# Altium integrated library Silicon Labs Energy Micro EFM32.IntLib: 240 symbols (part 21 of 34)
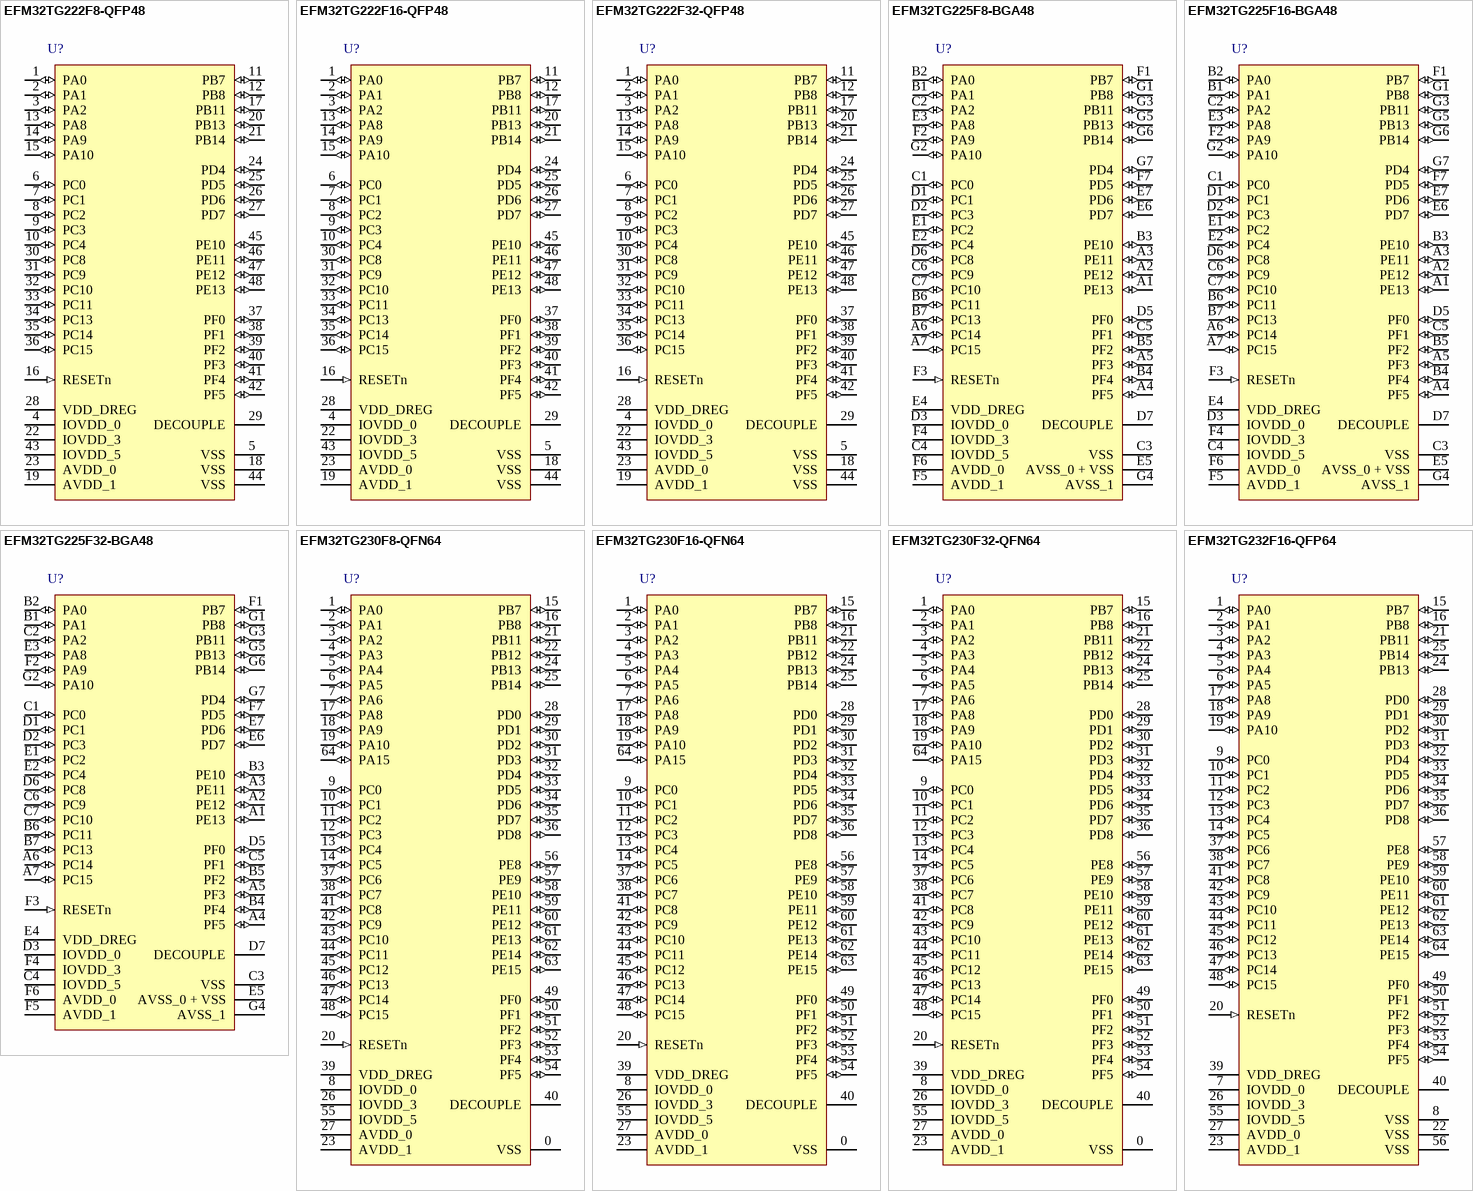
[diagram p58: symbols EFM32TG222F8-QFP48 to EFM32TG232F16-QFP64]

## EFM32TG222F8-QFP48
designator U?
EFM32 Tiny Gecko, M3 ARM Cortex CPU, 8 KB Flash, 2 KB RAM, 1.85 - 3.8 V Supply, 32 MHz Max Speed, -40 to 85 degC, 48-Pin TQFP, RoHS Compliant; Generic Part Number: EFM32TG222; PartNumber: EFM32TG222F8-QFP48; ADC: Y; Flash (KB): 8; GPIO: 37; Max Speed (MHz): 32; OPAMPS: 3; RAM (KB): 2; DatasheetVersion: Rev 1.00; PackageVersion: Rev. 98SPP48097A_XO_30Mar11; PackageReference: TQFP48; PackageDescription: 48-Pin Quad Flat Package, Body 7 x 7 mm, Pitch 0.5 mm; Supplier 1: Digi-Key; Supplier Part Number 1: EFM32TG222F8-ND; Supplier 2: Mouser; Supplier Part Number 2: 904-EFM32TG222F8; AES: Y; ARM Cortex CPU: M3; LESENSE: Y; Subcategory: EFM32 Tiny Gecko; Supply Voltage (V): 1.85 - 3.8; Mounting Technology: Surface Mount; ComponentLink1Description: Manufacturer URL; ComponentLink1URL: http://www.energymicro.com/; ComponentLink2Description: Datasheet; ComponentLink2URL: http://cdn.energymicro.com/dl/devices/pdf/d0051_efm32tg222_datasheet.pdf; ComponentLink3Description: Package Specification; ComponentLink3URL: http://cdn.energymicro.com/dl/devices/pdf/d0033_efm32g222_datasheet.pdf
footprint ENMR-TQFP48_N (QFP, 48-Leads, Body 7x7mm, Pitch 0.5mm, IPC Medium Density)
footprint ENMR-TQFP48_L (QFP, 48-Leads, Body 7x7mm, Pitch 0.5mm, IPC High Density)
footprint ENMR-TQFP48_M (QFP, 48-Leads, Body 7x7mm, Pitch 0.5mm, IPC Low Density)
pins: 1 PA0 (io) "TIM0_CC0#0/1/4, LEU0_RX#4, I2C0_SDA#0, PRS_CH0#0, GPIO_EM4WU0?", 2 PA1 (io) "TIM0_CC1#0/1, I2C0_SCL#0, CMU_CLK1#0, PRS_CH1#0", 3 PA2 (io) "TIM0_CC2#0/1, CMU_CLK0#0", 4 IOVDD_0 (power) "Digital IO power supply 0.", 5 VSS (power) "Ground.", 6 PC0 (io) "DAC0_OUT0ALT#0/OPAMP_OUT0ALT, ACMP0_CH0, TIM0_CC1#4, PCNT0_S0IN#2, US0_TX#5, US1_TX#0, I2C0_SDA#4, LES_CH0#0, PRS_CH2#0", 7 PC1 (io) "DAC0_OUT0ALT#1/OPAMP_OUT0ALT, ACMP0_CH1, TIM0_CC2#4, PCNT0_S1IN#2, US0_RX#5, US1_RX#0, I2C0_SCL#4, LES_CH1#0, PRS_CH3#0", 8 PC2 (io) "DAC0_OUT0ALT#2/OPAMP_OUT0ALT, ACMP0_CH2, LES_CH2#0", 9 PC3 (io) "DAC0_OUT0ALT#3/OPAMP_OUT0ALT, ACMP0_CH3, LES_CH3#0", 10 PC4 (io) "DAC0_P0#0/OPAMP_P0, ACMP0_CH4, LETIM0_OUT0#3, LES_CH4#0", 11 PB7 (io) "LFXTAL_P, TIM1_CC0#3, US0_TX#4, US1_CLK#0", 12 PB8 (io) "LFXTAL_N, TIM1_CC1#3, US0_RX#4, US1_CS#0", 13 PA8 (io), 14 PA9 (io), 15 PA10 (io), 16 RESETn (in) "Reset input. Active low, with internal pull-up.", 17 PB11 (io) "DAC0_OUT0#0/OPAMP_OUT0, TIM1_CC2#3, LETIM0_OUT0#1", 18 VSS (power) "Ground.", 19 AVDD_1 (power) "Analog power supply 1 .", 20 PB13 (io) "HFXTAL_P, US0_CLK#4/5, LEU0_TX#1", 21 PB14 (io) "HFXTAL_N, US0_CS#4/5, LEU0_RX#1", 22 IOVDD_3 (power) "Digital IO power supply 3.", 23 AVDD_0 (power) "Analog power supply 0.", 24 PD4 (io) "ADC0_CH4, DAC0_P2#0/OPAMP_P2, LEU0_TX#0", 25 PD5 (io) "ADC0_CH5, DAC0_OUT2#0/OPAMP_OUT2, LEU0_RX#0", 26 PD6 (io) "ADC0_CH6, DAC0_P1#0/OPAMP_P1, TIM1_CC0#4, LETIM0_OUT0#0, PCNT0_S0IN#3, US1_RX#2, I2C0_SDA#1, LES_ALTEX0#0, ACMP0_O#2", 27 PD7 (io) "ADC0_CH7, DAC0_N1#0/OPAMP_N1, TIM1_CC1#4, LETIM0_OUT1#0, PCNT0_S1IN#3, US1_TX#2, I2C0_SCL#1, CMU_CLK0#2, LES_ALTEX1#0, ACMP1_O#2", 28 VDD_DREG (power) "Power supply for on-chip voltage regulator.", 29 DECOUPLE "Decouple output for on-chip voltage regulator, nominally at 1.8 V. An external capacitance of size CDECOUPLE is required at this pin.", 30 PC8 (io) "ACMP1_CH0, US0_CS#2, LES_CH8#0", 31 PC9 (io) "ACMP1_CH1, US0_CLK#2, LES_CH9#0, GPIO_EM4WU2", 32 PC10 (io) "ACMP1_CH2, US0_RX#2, LES_CH10#0", 33 PC11 (io) "ACMP1_CH3, US0_TX#2, LES_CH11#0", 34 PC13 (io) "DAC0_OUT1ALT#1/OPAMP_OUT1ALT, ACMP1_CH5, TIM1_CC0#0, TIM1_CC2#4, PCNT0_S0IN#0, LES_CH13#0", 35 PC14 (io) "DAC0_OUT1ALT#2/OPAMP_OUT1ALT, ACMP1_CH6, TIM1_CC1#0, PCNT0_S1IN#0, US0_CS#3, LES_CH14#0", 36 PC15 (io) "DAC0_OUT1ALT#3/OPAMP_OUT1ALT, ACMP1_CH7, TIM1_CC2#0, US0_CLK#3, LES_CH15#0, DBG_SWO#1", 37 PF0 (io) "TIM0_CC0#5, LETIM0_OUT0#2, US1_CLK#2, LEU0_TX#3, I2C0_SDA#5, DBG_SWCLK#0/1", 38 PF1 (io) "TIM0_CC1#5, LETIM0_OUT1#2, US1_CS#2, LEU0_RX#3, I2C0_SCL#5, DBG_SWDIO#0/1, GPIO_EM4WU3", 39 PF2 (io) "TIM0_CC2#5, LEU0_TX#4, ACMP1_O#0, DBG_SWO#0, GPIO_EM4WU4", 40 PF3 (io) "PRS_CH0#1", 41 PF4 (io) "PRS_CH1 #1", 42 PF5 (io) "PRS_CH2#1", 43 IOVDD_5 (power) "Digital IO power supply 5.", 44 VSS (power) "Ground", 45 PE10 (io) "TIM1_CC0#1, US0_TX#0", 46 PE11 (io) "TIM1_CC1#1, US0_RX#0, LES_ALTEX5#0", 47 PE12 (io) "TIM1_CC2#1, US0_RX#3, US0_CLK#0, I2C0_SDA#6, CMU_CLK1#2, LES_ALTEX6#0", 48 PE13 (io) "US0_TX#3, US0_CS#0, I2C0_SCL#6, LES_ALTEX7#0, ACMP0_O#0, GPIO_EM4WU5"

## EFM32TG222F16-QFP48
designator U?
EFM32 Tiny Gecko, M3 ARM Cortex CPU, 16 KB Flash, 4 KB RAM, 1.85 - 3.8 V Supply, 32 MHz Max Speed, -40 to 85 degC, 48-Pin TQFP, RoHS Compliant; Generic Part Number: EFM32TG222; PartNumber: EFM32TG222F16-QFP48; ADC: Y; Flash (KB): 16; GPIO: 37; Max Speed (MHz): 32; OPAMPS: 3; RAM (KB): 4; DatasheetVersion: Rev 1.00; PackageVersion: Rev. 98SPP48097A_XO_30Mar11; PackageReference: TQFP48; PackageDescription: 48-Pin Quad Flat Package, Body 7 x 7 mm, Pitch 0.5 mm; Supplier 1: Digi-Key; Supplier Part Number 1: EFM32TG222F16-ND; Supplier 2: Mouser; Supplier Part Number 2: 904-EFM32TG222F16; AES: Y; ARM Cortex CPU: M3; LESENSE: Y; Subcategory: EFM32 Tiny Gecko; Supply Voltage (V): 1.85 - 3.8; Mounting Technology: Surface Mount; ComponentLink1Description: Manufacturer URL; ComponentLink1URL: http://www.energymicro.com/; ComponentLink2Description: Datasheet; ComponentLink2URL: http://cdn.energymicro.com/dl/devices/pdf/d0051_efm32tg222_datasheet.pdf; ComponentLink3Description: Package Specification; ComponentLink3URL: http://cdn.energymicro.com/dl/devices/pdf/d0033_efm32g222_datasheet.pdf
footprint ENMR-TQFP48_N (QFP, 48-Leads, Body 7x7mm, Pitch 0.5mm, IPC Medium Density)
footprint ENMR-TQFP48_L (QFP, 48-Leads, Body 7x7mm, Pitch 0.5mm, IPC High Density)
footprint ENMR-TQFP48_M (QFP, 48-Leads, Body 7x7mm, Pitch 0.5mm, IPC Low Density)
pins: 1 PA0 (io) "TIM0_CC0#0/1/4, LEU0_RX#4, I2C0_SDA#0, PRS_CH0#0, GPIO_EM4WU0?", 2 PA1 (io) "TIM0_CC1#0/1, I2C0_SCL#0, CMU_CLK1#0, PRS_CH1#0", 3 PA2 (io) "TIM0_CC2#0/1, CMU_CLK0#0", 4 IOVDD_0 (power) "Digital IO power supply 0.", 5 VSS (power) "Ground.", 6 PC0 (io) "DAC0_OUT0ALT#0/OPAMP_OUT0ALT, ACMP0_CH0, TIM0_CC1#4, PCNT0_S0IN#2, US0_TX#5, US1_TX#0, I2C0_SDA#4, LES_CH0#0, PRS_CH2#0", 7 PC1 (io) "DAC0_OUT0ALT#1/OPAMP_OUT0ALT, ACMP0_CH1, TIM0_CC2#4, PCNT0_S1IN#2, US0_RX#5, US1_RX#0, I2C0_SCL#4, LES_CH1#0, PRS_CH3#0", 8 PC2 (io) "DAC0_OUT0ALT#2/OPAMP_OUT0ALT, ACMP0_CH2, LES_CH2#0", 9 PC3 (io) "DAC0_OUT0ALT#3/OPAMP_OUT0ALT, ACMP0_CH3, LES_CH3#0", 10 PC4 (io) "DAC0_P0#0/OPAMP_P0, ACMP0_CH4, LETIM0_OUT0#3, LES_CH4#0", 11 PB7 (io) "LFXTAL_P, TIM1_CC0#3, US0_TX#4, US1_CLK#0", 12 PB8 (io) "LFXTAL_N, TIM1_CC1#3, US0_RX#4, US1_CS#0", 13 PA8 (io), 14 PA9 (io), 15 PA10 (io), 16 RESETn (in) "Reset input. Active low, with internal pull-up.", 17 PB11 (io) "DAC0_OUT0#0/OPAMP_OUT0, TIM1_CC2#3, LETIM0_OUT0#1", 18 VSS (power) "Ground.", 19 AVDD_1 (power) "Analog power supply 1 .", 20 PB13 (io) "HFXTAL_P, US0_CLK#4/5, LEU0_TX#1", 21 PB14 (io) "HFXTAL_N, US0_CS#4/5, LEU0_RX#1", 22 IOVDD_3 (power) "Digital IO power supply 3.", 23 AVDD_0 (power) "Analog power supply 0.", 24 PD4 (io) "ADC0_CH4, DAC0_P2#0/OPAMP_P2, LEU0_TX#0", 25 PD5 (io) "ADC0_CH5, DAC0_OUT2#0/OPAMP_OUT2, LEU0_RX#0", 26 PD6 (io) "ADC0_CH6, DAC0_P1#0/OPAMP_P1, TIM1_CC0#4, LETIM0_OUT0#0, PCNT0_S0IN#3, US1_RX#2, I2C0_SDA#1, LES_ALTEX0#0, ACMP0_O#2", 27 PD7 (io) "ADC0_CH7, DAC0_N1#0/OPAMP_N1, TIM1_CC1#4, LETIM0_OUT1#0, PCNT0_S1IN#3, US1_TX#2, I2C0_SCL#1, CMU_CLK0#2, LES_ALTEX1#0, ACMP1_O#2", 28 VDD_DREG (power) "Power supply for on-chip voltage regulator.", 29 DECOUPLE "Decouple output for on-chip voltage regulator, nominally at 1.8 V. An external capacitance of size CDECOUPLE is required at this pin.", 30 PC8 (io) "ACMP1_CH0, US0_CS#2, LES_CH8#0", 31 PC9 (io) "ACMP1_CH1, US0_CLK#2, LES_CH9#0, GPIO_EM4WU2", 32 PC10 (io) "ACMP1_CH2, US0_RX#2, LES_CH10#0", 33 PC11 (io) "ACMP1_CH3, US0_TX#2, LES_CH11#0", 34 PC13 (io) "DAC0_OUT1ALT#1/OPAMP_OUT1ALT, ACMP1_CH5, TIM1_CC0#0, TIM1_CC2#4, PCNT0_S0IN#0, LES_CH13#0", 35 PC14 (io) "DAC0_OUT1ALT#2/OPAMP_OUT1ALT, ACMP1_CH6, TIM1_CC1#0, PCNT0_S1IN#0, US0_CS#3, LES_CH14#0", 36 PC15 (io) "DAC0_OUT1ALT#3/OPAMP_OUT1ALT, ACMP1_CH7, TIM1_CC2#0, US0_CLK#3, LES_CH15#0, DBG_SWO#1", 37 PF0 (io) "TIM0_CC0#5, LETIM0_OUT0#2, US1_CLK#2, LEU0_TX#3, I2C0_SDA#5, DBG_SWCLK#0/1", 38 PF1 (io) "TIM0_CC1#5, LETIM0_OUT1#2, US1_CS#2, LEU0_RX#3, I2C0_SCL#5, DBG_SWDIO#0/1, GPIO_EM4WU3", 39 PF2 (io) "TIM0_CC2#5, LEU0_TX#4, ACMP1_O#0, DBG_SWO#0, GPIO_EM4WU4", 40 PF3 (io) "PRS_CH0#1", 41 PF4 (io) "PRS_CH1 #1", 42 PF5 (io) "PRS_CH2#1", 43 IOVDD_5 (power) "Digital IO power supply 5.", 44 VSS (power) "Ground", 45 PE10 (io) "TIM1_CC0#1, US0_TX#0", 46 PE11 (io) "TIM1_CC1#1, US0_RX#0, LES_ALTEX5#0", 47 PE12 (io) "TIM1_CC2#1, US0_RX#3, US0_CLK#0, I2C0_SDA#6, CMU_CLK1#2, LES_ALTEX6#0", 48 PE13 (io) "US0_TX#3, US0_CS#0, I2C0_SCL#6, LES_ALTEX7#0, ACMP0_O#0, GPIO_EM4WU5"

## EFM32TG222F32-QFP48
designator U?
EFM32 Tiny Gecko, M3 ARM Cortex CPU, 32 KB Flash, 4 KB RAM, 1.85 - 3.8 V Supply, 32 MHz Max Speed, -40 to 85 degC, 48-Pin TQFP, RoHS Compliant; Generic Part Number: EFM32TG222; PartNumber: EFM32TG222F32-QFP48; ADC: Y; Flash (KB): 32; GPIO: 37; OPAMPS: 3; RAM (KB): 4; DatasheetVersion: Rev 1.00; PackageVersion: Rev. 98SPP48097A_XO_30Mar11; PackageReference: TQFP48; PackageDescription: 48-Pin Quad Flat Package, Body 7 x 7 mm, Pitch 0.5 mm; Supplier 1: Digi-Key; Supplier Part Number 1: 914-1029-2-ND; Supplier 2: Digi-Key; Supplier Part Number 2: 914-1029-1-ND; Supplier 3: Digi-Key; Supplier Part Number 3: 914-1029-6-ND; Supplier 4: Mouser; Supplier Part Number 4: 904-EFM32TG222F32; AES: Y; ARM Cortex CPU: M3; LESENSE: Y; Max Speed (MHz): 32; Subcategory: EFM32 Tiny Gecko; Supply Voltage (V): 1.85 - 3.8; Mounting Technology: Surface Mount; ComponentLink1Description: Manufacturer URL; ComponentLink1URL: http://www.energymicro.com/; ComponentLink2Description: Datasheet; ComponentLink2URL: http://cdn.energymicro.com/dl/devices/pdf/d0051_efm32tg222_datasheet.pdf; ComponentLink3Description: Package Specification; ComponentLink3URL: http://cdn.energymicro.com/dl/devices/pdf/d0033_efm32g222_datasheet.pdf
footprint ENMR-TQFP48_N (QFP, 48-Leads, Body 7x7mm, Pitch 0.5mm, IPC Medium Density)
footprint ENMR-TQFP48_L (QFP, 48-Leads, Body 7x7mm, Pitch 0.5mm, IPC High Density)
footprint ENMR-TQFP48_M (QFP, 48-Leads, Body 7x7mm, Pitch 0.5mm, IPC Low Density)
pins: 1 PA0 (io) "TIM0_CC0#0/1/4, LEU0_RX#4, I2C0_SDA#0, PRS_CH0#0, GPIO_EM4WU0?", 2 PA1 (io) "TIM0_CC1#0/1, I2C0_SCL#0, CMU_CLK1#0, PRS_CH1#0", 3 PA2 (io) "TIM0_CC2#0/1, CMU_CLK0#0", 4 IOVDD_0 (power) "Digital IO power supply 0.", 5 VSS (power) "Ground.", 6 PC0 (io) "DAC0_OUT0ALT#0/OPAMP_OUT0ALT, ACMP0_CH0, TIM0_CC1#4, PCNT0_S0IN#2, US0_TX#5, US1_TX#0, I2C0_SDA#4, LES_CH0#0, PRS_CH2#0", 7 PC1 (io) "DAC0_OUT0ALT#1/OPAMP_OUT0ALT, ACMP0_CH1, TIM0_CC2#4, PCNT0_S1IN#2, US0_RX#5, US1_RX#0, I2C0_SCL#4, LES_CH1#0, PRS_CH3#0", 8 PC2 (io) "DAC0_OUT0ALT#2/OPAMP_OUT0ALT, ACMP0_CH2, LES_CH2#0", 9 PC3 (io) "DAC0_OUT0ALT#3/OPAMP_OUT0ALT, ACMP0_CH3, LES_CH3#0", 10 PC4 (io) "DAC0_P0#0/OPAMP_P0, ACMP0_CH4, LETIM0_OUT0#3, LES_CH4#0", 11 PB7 (io) "LFXTAL_P, TIM1_CC0#3, US0_TX#4, US1_CLK#0", 12 PB8 (io) "LFXTAL_N, TIM1_CC1#3, US0_RX#4, US1_CS#0", 13 PA8 (io), 14 PA9 (io), 15 PA10 (io), 16 RESETn (in) "Reset input. Active low, with internal pull-up.", 17 PB11 (io) "DAC0_OUT0#0/OPAMP_OUT0, TIM1_CC2#3, LETIM0_OUT0#1", 18 VSS (power) "Ground.", 19 AVDD_1 (power) "Analog power supply 1 .", 20 PB13 (io) "HFXTAL_P, US0_CLK#4/5, LEU0_TX#1", 21 PB14 (io) "HFXTAL_N, US0_CS#4/5, LEU0_RX#1", 22 IOVDD_3 (power) "Digital IO power supply 3.", 23 AVDD_0 (power) "Analog power supply 0.", 24 PD4 (io) "ADC0_CH4, DAC0_P2#0/OPAMP_P2, LEU0_TX#0", 25 PD5 (io) "ADC0_CH5, DAC0_OUT2#0/OPAMP_OUT2, LEU0_RX#0", 26 PD6 (io) "ADC0_CH6, DAC0_P1#0/OPAMP_P1, TIM1_CC0#4, LETIM0_OUT0#0, PCNT0_S0IN#3, US1_RX#2, I2C0_SDA#1, LES_ALTEX0#0, ACMP0_O#2", 27 PD7 (io) "ADC0_CH7, DAC0_N1#0/OPAMP_N1, TIM1_CC1#4, LETIM0_OUT1#0, PCNT0_S1IN#3, US1_TX#2, I2C0_SCL#1, CMU_CLK0#2, LES_ALTEX1#0, ACMP1_O#2", 28 VDD_DREG (power) "Power supply for on-chip voltage regulator.", 29 DECOUPLE "Decouple output for on-chip voltage regulator, nominally at 1.8 V. An external capacitance of size CDECOUPLE is required at this pin.", 30 PC8 (io) "ACMP1_CH0, US0_CS#2, LES_CH8#0", 31 PC9 (io) "ACMP1_CH1, US0_CLK#2, LES_CH9#0, GPIO_EM4WU2", 32 PC10 (io) "ACMP1_CH2, US0_RX#2, LES_CH10#0", 33 PC11 (io) "ACMP1_CH3, US0_TX#2, LES_CH11#0", 34 PC13 (io) "DAC0_OUT1ALT#1/OPAMP_OUT1ALT, ACMP1_CH5, TIM1_CC0#0, TIM1_CC2#4, PCNT0_S0IN#0, LES_CH13#0", 35 PC14 (io) "DAC0_OUT1ALT#2/OPAMP_OUT1ALT, ACMP1_CH6, TIM1_CC1#0, PCNT0_S1IN#0, US0_CS#3, LES_CH14#0", 36 PC15 (io) "DAC0_OUT1ALT#3/OPAMP_OUT1ALT, ACMP1_CH7, TIM1_CC2#0, US0_CLK#3, LES_CH15#0, DBG_SWO#1", 37 PF0 (io) "TIM0_CC0#5, LETIM0_OUT0#2, US1_CLK#2, LEU0_TX#3, I2C0_SDA#5, DBG_SWCLK#0/1", 38 PF1 (io) "TIM0_CC1#5, LETIM0_OUT1#2, US1_CS#2, LEU0_RX#3, I2C0_SCL#5, DBG_SWDIO#0/1, GPIO_EM4WU3", 39 PF2 (io) "TIM0_CC2#5, LEU0_TX#4, ACMP1_O#0, DBG_SWO#0, GPIO_EM4WU4", 40 PF3 (io) "PRS_CH0#1", 41 PF4 (io) "PRS_CH1 #1", 42 PF5 (io) "PRS_CH2#1", 43 IOVDD_5 (power) "Digital IO power supply 5.", 44 VSS (power) "Ground", 45 PE10 (io) "TIM1_CC0#1, US0_TX#0", 46 PE11 (io) "TIM1_CC1#1, US0_RX#0, LES_ALTEX5#0", 47 PE12 (io) "TIM1_CC2#1, US0_RX#3, US0_CLK#0, I2C0_SDA#6, CMU_CLK1#2, LES_ALTEX6#0", 48 PE13 (io) "US0_TX#3, US0_CS#0, I2C0_SCL#6, LES_ALTEX7#0, ACMP0_O#0, GPIO_EM4WU5"

## EFM32TG225F8-BGA48
designator U?
EFM32 Tiny Gecko, M3 ARM Cortex CPU, 8 KB Flash, 2 KB RAM, 1.85 - 3.8 V Supply, 32 MHz Max Speed, -40 to 85 degC, 48-Pin BGA, RoHS Compliant; Generic Part Number: EFM32TG225; PartNumber: EFM32TG225F8-BGA48; ADC: Y; Flash (KB): 8; GPIO: 37; Max Speed (MHz): 32; OPAMPS: 3; RAM (KB): 2; DatasheetVersion: Rev 1.00; PackageVersion: Rev. 97SPP01420A_XO1_24FEB2012; PackageReference: BGA48; PackageDescription: 48-Ball Grid Array, Body 4 x 4 mm, Pitch 0.5 mm; Supplier 1: Mouser; Supplier Part Number 1: 904-EFM32TG225F8; AES: Y; ARM Cortex CPU: M3; LESENSE: Y; Subcategory: EFM32 Tiny Gecko; Supply Voltage (V): 1.85 - 3.8; Mounting Technology: Surface Mount; ComponentLink1Description: Manufacturer URL; ComponentLink1URL: http://www.energymicro.com/; ComponentLink2Description: Datasheet; ComponentLink2URL: http://cdn.energymicro.com/dl/devices/pdf/d0205_efm32tg225_datasheet.pdf; ComponentLink3Description: Package Specification; ComponentLink3URL: http://cdn.energymicro.com/dl/devices/pdf/d0206_efm32tg825_datasheet.pdf
footprint ENMR-BGA48 (BGA, 48-Balls, Body 4x4mm, Pitch 0.5mm)
pins: A1 PE13 (io) "US0_TX#3, US0_CS#0, I2C0_SCL#6, LES_ALTEX7#0, ACMP0_O#0, GPIO_EM4WU5", A2 PE12 (io) "TIM1_CC2#1, US0_RX#3, US0_CLK#0, I2C0_SDA#6, CMU_CLK1#2, LES_ALTEX6#0", A3 PE11 (io) "TIM1_CC1#1, US0_RX#0, LES_ALTEX5#0", A4 PF5 (io) "PRS_CH2#1", A5 PF3 (io) "PRS_CH0#1", A6 PC14 (io) "DAC0_OUT1ALT#2/OPAMP_OUT1ALT, ACMP1_CH6, TIM1_CC1#0, PCNT0_S1IN#0, US0_CS#3, LES_CH14#0", A7 PC15 (io) "DAC0_OUT1ALT#3/OPAMP_OUT1ALT, ACMP1_CH7, TIM1_CC2#0, US0_CLK#3, LES_CH15#0, DBG_SWO#1", B1 PA1 (io) "TIM0_CC1#0/1, I2C0_SCL#0, CMU_CLK1#0, PRS_CH1#0", B2 PA0 (io) "TIM0_CC0#0/1/4, LEU0_RX#4, I2C0_SDA#0, PRS_CH0#0, GPIO_EM4WU0", B3 PE10 (io) "TIM1_CC0#1, US0_TX#0", B4 PF4 (io) "PRS_CH1#1", B5 PF2 (io) "TIM0_CC2#5, LEU0_TX#4, ACMP1_O#0, DBG_SWO#0, GPIO_EM4WU4", B6 PC11 (io) "ACMP1_CH3, US0_TX#2, LES_CH11#0", B7 PC13 (io) "DAC0_OUT1ALT#1/OPAMP_OUT1ALT, ACMP1_CH5, TIM1_CC0#0, TIM1_CC2#4, PCNT0_S0IN#0, LES_CH13#0", C1 PC0 (io) "DAC0_OUT0ALT#0/OPAMP_OUT0ALT, ACMP0_CH0, TIM0_CC1#4, PCNT0_S0IN#2, US0_TX#5, US1_TX#0, I2C0_SDA#4, LES_CH0#0, PRS_CH2#0", C2 PA2 (io) "TIM0_CC2#0/1, CMU_CLK0#0", C3 VSS (power) "Ground", C4 IOVDD_5 (power) "Digital IO power supply 5.", C5 PF1 (io) "TIM0_CC1#5, LETIM0_OUT1#2, US1_CS#2, LEU0_RX#3, I2C0_SCL#5, DBG_SWDIO#0/1, GPIO_EM4WU3", C6 PC9 (io) "ACMP1_CH1, US0_CLK#2, LES_CH9#0, GPIO_EM4WU2", C7 PC10 (io) "ACMP1_CH2, US0_RX#2, LES_CH10#0", D1 PC1 (io) "DAC0_OUT0ALT#1/OPAMP_OUT0ALT, ACMP0_CH1, TIM0_CC2#4, PCNT0_S1IN#2, US0_RX#5, US1_RX#0, I2C0_SCL#4, LES_CH1#0, PRS_CH3#0", D2 PC3 (io) "DAC0_OUT0ALT#3/OPAMP_OUT0ALT, ACMP0_CH3, LES_CH3#0", D3 IOVDD_0 (power) "Digital IO power supply 0.", D5 PF0 (io) "TIM0_CC0#5, LETIM0_OUT0#2, US1_CLK#2, LEU0_TX#3, I2C0_SDA#5, DBG_SWCLK#0/1", D6 PC8 (io) "ACMP1_CH0, US0_CS#2, LES_CH8#0", D7 DECOUPLE "Decouple output for on-chip voltage regulator, nominally at 1.8 V. An external capacitance of size CDECOUPLE is required at this pin.", E1 PC2 (io) "DAC0_OUT0ALT#2/OPAMP_OUT0ALT, ACMP0_CH2, LES_CH2#0", E2 PC4 (io) "DAC0_P0#0/OPAMP_P0, ACMP0_CH4, LETIM0_OUT0#3, LES_CH4#0", E3 PA8 (io), E4 VDD_DREG (power) "Power supply for on-chip voltage regulator.", E5 AVSS_0 + VSS (power) "Analog ground 0 + VSS.", E6 PD7 (io) "ADC0_CH7, DAC0_N1#0/OPAMP_N1, TIM1_CC1#4, LETIM0_OUT1#0, PCNT0_S1IN#3, US1_TX#2, I2C0_SCL#1, CMU_CLK0#2, LES_ALTEX1#0, ACMP1_O#2", E7 PD6 (io) "ADC0_CH6, DAC0_P1#0/OPAMP_P1, TIM1_CC0#4, LETIM0_OUT0#0, PCNT0_S0IN#3, US1_RX#2, I2C0_SDA#1, LES_ALTEX0#0, ACMP0_O#2", F1 PB7 (io) "LFXTAL_P, TIM1_CC0#3, US0_TX#4, US1_CLK#0", F2 PA9 (io), F3 RESETn (in) "Reset input. Active low, with internal pull-up.", F4 IOVDD_3 (power) "Digital IO power supply 3.", F5 AVDD_1 (power) "Analog power supply 1 .", F6 AVDD_0 (power) "Analog power supply 0.", F7 PD5 (io) "ADC0_CH5, DAC0_OUT2#0/OPAMP_OUT2, LEU0_RX#0", G1 PB8 (io) "LFXTAL_N, TIM1_CC1#3, US0_RX#4, US1_CS#0", G2 PA10 (io), G3 PB11 (io) "DAC0_OUT0#0/OPAMP_OUT0, TIM1_CC2#3, LETIM0_OUT0#1", G4 AVSS_1 (power) "Analog ground 1 .", G5 PB13 (io) "HFXTAL_P, US0_CLK#4/5, LEU0_TX#1", G6 PB14 (io) "HFXTAL_N, US0_CS#4/5, LEU0_RX#1", G7 PD4 (io) "ADC0_CH4, DAC0_P2#0/OPAMP_P2, LEU0_TX#0"

## EFM32TG225F16-BGA48
designator U?
EFM32 Tiny Gecko, M3 ARM Cortex CPU, 16 KB Flash, 4 KB RAM, 1.85 - 3.8 V Supply, 32 MHz Max Speed, -40 to 85 degC, 48-Pin BGA, RoHS Compliant; Generic Part Number: EFM32TG225; PartNumber: EFM32TG225F16-BGA48; ADC: Y; Flash (KB): 16; GPIO: 37; Max Speed (MHz): 32; OPAMPS: 3; RAM (KB): 4; DatasheetVersion: Rev 1.00; PackageVersion: Rev. 97SPP01420A_XO1_24FEB2012; PackageReference: BGA48; PackageDescription: 48-Ball Grid Array, Body 4 x 4 mm, Pitch 0.5 mm; Supplier 1: Mouser; Supplier Part Number 1: 904-EFM32TG225F16; AES: Y; ARM Cortex CPU: M3; LESENSE: Y; Subcategory: EFM32 Tiny Gecko; Supply Voltage (V): 1.85 - 3.8; Mounting Technology: Surface Mount; ComponentLink1Description: Manufacturer URL; ComponentLink1URL: http://www.energymicro.com/; ComponentLink2Description: Datasheet; ComponentLink2URL: http://cdn.energymicro.com/dl/devices/pdf/d0205_efm32tg225_datasheet.pdf; ComponentLink3Description: Package Specification; ComponentLink3URL: http://cdn.energymicro.com/dl/devices/pdf/d0206_efm32tg825_datasheet.pdf
footprint ENMR-BGA48 (BGA, 48-Balls, Body 4x4mm, Pitch 0.5mm)
pins: A1 PE13 (io) "US0_TX#3, US0_CS#0, I2C0_SCL#6, LES_ALTEX7#0, ACMP0_O#0, GPIO_EM4WU5", A2 PE12 (io) "TIM1_CC2#1, US0_RX#3, US0_CLK#0, I2C0_SDA#6, CMU_CLK1#2, LES_ALTEX6#0", A3 PE11 (io) "TIM1_CC1#1, US0_RX#0, LES_ALTEX5#0", A4 PF5 (io) "PRS_CH2#1", A5 PF3 (io) "PRS_CH0#1", A6 PC14 (io) "DAC0_OUT1ALT#2/OPAMP_OUT1ALT, ACMP1_CH6, TIM1_CC1#0, PCNT0_S1IN#0, US0_CS#3, LES_CH14#0", A7 PC15 (io) "DAC0_OUT1ALT#3/OPAMP_OUT1ALT, ACMP1_CH7, TIM1_CC2#0, US0_CLK#3, LES_CH15#0, DBG_SWO#1", B1 PA1 (io) "TIM0_CC1#0/1, I2C0_SCL#0, CMU_CLK1#0, PRS_CH1#0", B2 PA0 (io) "TIM0_CC0#0/1/4, LEU0_RX#4, I2C0_SDA#0, PRS_CH0#0, GPIO_EM4WU0", B3 PE10 (io) "TIM1_CC0#1, US0_TX#0", B4 PF4 (io) "PRS_CH1#1", B5 PF2 (io) "TIM0_CC2#5, LEU0_TX#4, ACMP1_O#0, DBG_SWO#0, GPIO_EM4WU4", B6 PC11 (io) "ACMP1_CH3, US0_TX#2, LES_CH11#0", B7 PC13 (io) "DAC0_OUT1ALT#1/OPAMP_OUT1ALT, ACMP1_CH5, TIM1_CC0#0, TIM1_CC2#4, PCNT0_S0IN#0, LES_CH13#0", C1 PC0 (io) "DAC0_OUT0ALT#0/OPAMP_OUT0ALT, ACMP0_CH0, TIM0_CC1#4, PCNT0_S0IN#2, US0_TX#5, US1_TX#0, I2C0_SDA#4, LES_CH0#0, PRS_CH2#0", C2 PA2 (io) "TIM0_CC2#0/1, CMU_CLK0#0", C3 VSS (power) "Ground", C4 IOVDD_5 (power) "Digital IO power supply 5.", C5 PF1 (io) "TIM0_CC1#5, LETIM0_OUT1#2, US1_CS#2, LEU0_RX#3, I2C0_SCL#5, DBG_SWDIO#0/1, GPIO_EM4WU3", C6 PC9 (io) "ACMP1_CH1, US0_CLK#2, LES_CH9#0, GPIO_EM4WU2", C7 PC10 (io) "ACMP1_CH2, US0_RX#2, LES_CH10#0", D1 PC1 (io) "DAC0_OUT0ALT#1/OPAMP_OUT0ALT, ACMP0_CH1, TIM0_CC2#4, PCNT0_S1IN#2, US0_RX#5, US1_RX#0, I2C0_SCL#4, LES_CH1#0, PRS_CH3#0", D2 PC3 (io) "DAC0_OUT0ALT#3/OPAMP_OUT0ALT, ACMP0_CH3, LES_CH3#0", D3 IOVDD_0 (power) "Digital IO power supply 0.", D5 PF0 (io) "TIM0_CC0#5, LETIM0_OUT0#2, US1_CLK#2, LEU0_TX#3, I2C0_SDA#5, DBG_SWCLK#0/1", D6 PC8 (io) "ACMP1_CH0, US0_CS#2, LES_CH8#0", D7 DECOUPLE "Decouple output for on-chip voltage regulator, nominally at 1.8 V. An external capacitance of size CDECOUPLE is required at this pin.", E1 PC2 (io) "DAC0_OUT0ALT#2/OPAMP_OUT0ALT, ACMP0_CH2, LES_CH2#0", E2 PC4 (io) "DAC0_P0#0/OPAMP_P0, ACMP0_CH4, LETIM0_OUT0#3, LES_CH4#0", E3 PA8 (io), E4 VDD_DREG (power) "Power supply for on-chip voltage regulator.", E5 AVSS_0 + VSS (power) "Analog ground 0 + VSS.", E6 PD7 (io) "ADC0_CH7, DAC0_N1#0/OPAMP_N1, TIM1_CC1#4, LETIM0_OUT1#0, PCNT0_S1IN#3, US1_TX#2, I2C0_SCL#1, CMU_CLK0#2, LES_ALTEX1#0, ACMP1_O#2", E7 PD6 (io) "ADC0_CH6, DAC0_P1#0/OPAMP_P1, TIM1_CC0#4, LETIM0_OUT0#0, PCNT0_S0IN#3, US1_RX#2, I2C0_SDA#1, LES_ALTEX0#0, ACMP0_O#2", F1 PB7 (io) "LFXTAL_P, TIM1_CC0#3, US0_TX#4, US1_CLK#0", F2 PA9 (io), F3 RESETn (in) "Reset input. Active low, with internal pull-up.", F4 IOVDD_3 (power) "Digital IO power supply 3.", F5 AVDD_1 (power) "Analog power supply 1 .", F6 AVDD_0 (power) "Analog power supply 0.", F7 PD5 (io) "ADC0_CH5, DAC0_OUT2#0/OPAMP_OUT2, LEU0_RX#0", G1 PB8 (io) "LFXTAL_N, TIM1_CC1#3, US0_RX#4, US1_CS#0", G2 PA10 (io), G3 PB11 (io) "DAC0_OUT0#0/OPAMP_OUT0, TIM1_CC2#3, LETIM0_OUT0#1", G4 AVSS_1 (power) "Analog ground 1 .", G5 PB13 (io) "HFXTAL_P, US0_CLK#4/5, LEU0_TX#1", G6 PB14 (io) "HFXTAL_N, US0_CS#4/5, LEU0_RX#1", G7 PD4 (io) "ADC0_CH4, DAC0_P2#0/OPAMP_P2, LEU0_TX#0"

## EFM32TG225F32-BGA48
designator U?
EFM32 Tiny Gecko, M3 ARM Cortex CPU, 32 KB Flash, 4 KB RAM, 1.85 - 3.8 V Supply, 32 MHz Max Speed, -40 to 85 degC, 48-Pin BGA, RoHS Compliant; Generic Part Number: EFM32TG225; PartNumber: EFM32TG225F32-BGA48; ADC: Y; Flash (KB): 32; GPIO: 37; OPAMPS: 3; RAM (KB): 4; DatasheetVersion: Rev 1.00; PackageVersion: Rev. 97SPP01420A_XO1_24FEB2012; PackageReference: BGA48; PackageDescription: 48-Ball Grid Array, Body 4 x 4 mm, Pitch 0.5 mm; Supplier 1: Mouser; Supplier Part Number 1: 904-EFM32TG225F32; AES: Y; ARM Cortex CPU: M3; LESENSE: Y; Max Speed (MHz): 32; Subcategory: EFM32 Tiny Gecko; Supply Voltage (V): 1.85 - 3.8; Mounting Technology: Surface Mount; ComponentLink1Description: Manufacturer URL; ComponentLink1URL: http://www.energymicro.com/; ComponentLink2Description: Datasheet; ComponentLink2URL: http://cdn.energymicro.com/dl/devices/pdf/d0205_efm32tg225_datasheet.pdf; ComponentLink3Description: Package Specification; ComponentLink3URL: http://cdn.energymicro.com/dl/devices/pdf/d0206_efm32tg825_datasheet.pdf
footprint ENMR-BGA48 (BGA, 48-Balls, Body 4x4mm, Pitch 0.5mm)
pins: A1 PE13 (io) "US0_TX#3, US0_CS#0, I2C0_SCL#6, LES_ALTEX7#0, ACMP0_O#0, GPIO_EM4WU5", A2 PE12 (io) "TIM1_CC2#1, US0_RX#3, US0_CLK#0, I2C0_SDA#6, CMU_CLK1#2, LES_ALTEX6#0", A3 PE11 (io) "TIM1_CC1#1, US0_RX#0, LES_ALTEX5#0", A4 PF5 (io) "PRS_CH2#1", A5 PF3 (io) "PRS_CH0#1", A6 PC14 (io) "DAC0_OUT1ALT#2/OPAMP_OUT1ALT, ACMP1_CH6, TIM1_CC1#0, PCNT0_S1IN#0, US0_CS#3, LES_CH14#0", A7 PC15 (io) "DAC0_OUT1ALT#3/OPAMP_OUT1ALT, ACMP1_CH7, TIM1_CC2#0, US0_CLK#3, LES_CH15#0, DBG_SWO#1", B1 PA1 (io) "TIM0_CC1#0/1, I2C0_SCL#0, CMU_CLK1#0, PRS_CH1#0", B2 PA0 (io) "TIM0_CC0#0/1/4, LEU0_RX#4, I2C0_SDA#0, PRS_CH0#0, GPIO_EM4WU0", B3 PE10 (io) "TIM1_CC0#1, US0_TX#0", B4 PF4 (io) "PRS_CH1#1", B5 PF2 (io) "TIM0_CC2#5, LEU0_TX#4, ACMP1_O#0, DBG_SWO#0, GPIO_EM4WU4", B6 PC11 (io) "ACMP1_CH3, US0_TX#2, LES_CH11#0", B7 PC13 (io) "DAC0_OUT1ALT#1/OPAMP_OUT1ALT, ACMP1_CH5, TIM1_CC0#0, TIM1_CC2#4, PCNT0_S0IN#0, LES_CH13#0", C1 PC0 (io) "DAC0_OUT0ALT#0/OPAMP_OUT0ALT, ACMP0_CH0, TIM0_CC1#4, PCNT0_S0IN#2, US0_TX#5, US1_TX#0, I2C0_SDA#4, LES_CH0#0, PRS_CH2#0", C2 PA2 (io) "TIM0_CC2#0/1, CMU_CLK0#0", C3 VSS (power) "Ground", C4 IOVDD_5 (power) "Digital IO power supply 5.", C5 PF1 (io) "TIM0_CC1#5, LETIM0_OUT1#2, US1_CS#2, LEU0_RX#3, I2C0_SCL#5, DBG_SWDIO#0/1, GPIO_EM4WU3", C6 PC9 (io) "ACMP1_CH1, US0_CLK#2, LES_CH9#0, GPIO_EM4WU2", C7 PC10 (io) "ACMP1_CH2, US0_RX#2, LES_CH10#0", D1 PC1 (io) "DAC0_OUT0ALT#1/OPAMP_OUT0ALT, ACMP0_CH1, TIM0_CC2#4, PCNT0_S1IN#2, US0_RX#5, US1_RX#0, I2C0_SCL#4, LES_CH1#0, PRS_CH3#0", D2 PC3 (io) "DAC0_OUT0ALT#3/OPAMP_OUT0ALT, ACMP0_CH3, LES_CH3#0", D3 IOVDD_0 (power) "Digital IO power supply 0.", D5 PF0 (io) "TIM0_CC0#5, LETIM0_OUT0#2, US1_CLK#2, LEU0_TX#3, I2C0_SDA#5, DBG_SWCLK#0/1", D6 PC8 (io) "ACMP1_CH0, US0_CS#2, LES_CH8#0", D7 DECOUPLE "Decouple output for on-chip voltage regulator, nominally at 1.8 V. An external capacitance of size CDECOUPLE is required at this pin.", E1 PC2 (io) "DAC0_OUT0ALT#2/OPAMP_OUT0ALT, ACMP0_CH2, LES_CH2#0", E2 PC4 (io) "DAC0_P0#0/OPAMP_P0, ACMP0_CH4, LETIM0_OUT0#3, LES_CH4#0", E3 PA8 (io), E4 VDD_DREG (power) "Power supply for on-chip voltage regulator.", E5 AVSS_0 + VSS (power) "Analog ground 0 + VSS.", E6 PD7 (io) "ADC0_CH7, DAC0_N1#0/OPAMP_N1, TIM1_CC1#4, LETIM0_OUT1#0, PCNT0_S1IN#3, US1_TX#2, I2C0_SCL#1, CMU_CLK0#2, LES_ALTEX1#0, ACMP1_O#2", E7 PD6 (io) "ADC0_CH6, DAC0_P1#0/OPAMP_P1, TIM1_CC0#4, LETIM0_OUT0#0, PCNT0_S0IN#3, US1_RX#2, I2C0_SDA#1, LES_ALTEX0#0, ACMP0_O#2", F1 PB7 (io) "LFXTAL_P, TIM1_CC0#3, US0_TX#4, US1_CLK#0", F2 PA9 (io), F3 RESETn (in) "Reset input. Active low, with internal pull-up.", F4 IOVDD_3 (power) "Digital IO power supply 3.", F5 AVDD_1 (power) "Analog power supply 1 .", F6 AVDD_0 (power) "Analog power supply 0.", F7 PD5 (io) "ADC0_CH5, DAC0_OUT2#0/OPAMP_OUT2, LEU0_RX#0", G1 PB8 (io) "LFXTAL_N, TIM1_CC1#3, US0_RX#4, US1_CS#0", G2 PA10 (io), G3 PB11 (io) "DAC0_OUT0#0/OPAMP_OUT0, TIM1_CC2#3, LETIM0_OUT0#1", G4 AVSS_1 (power) "Analog ground 1 .", G5 PB13 (io) "HFXTAL_P, US0_CLK#4/5, LEU0_TX#1", G6 PB14 (io) "HFXTAL_N, US0_CS#4/5, LEU0_RX#1", G7 PD4 (io) "ADC0_CH4, DAC0_P2#0/OPAMP_P2, LEU0_TX#0"

## EFM32TG230F8-QFN64
designator U?
EFM32 Tiny Gecko, M3 ARM Cortex CPU, 8 KB Flash, 2 KB RAM, 1.85 - 3.8 V Supply, 32 MHz Max Speed, -40 to 85 degC, 64-Pin QFN, RoHS Compliant; Generic Part Number: EFM32TG230; PartNumber: EFM32TG230F8-QFN64; ADC: Y; Flash (KB): 8; GPIO: 56; Max Speed (MHz): 32; OPAMPS: 3; RAM (KB): 2; DatasheetVersion: Rev 1.00; PackageVersion: Rev. 98SPP64048A_XO1_08MAR2011; PackageReference: QFN64; PackageDescription: 64-Pin Quad Flat No-Lead, Body 9 x 9 mm, Pitch 0.5 mm; Supplier 1: Digi-Key; Supplier Part Number 1: EFM32TG230F8-ND; Supplier 2: Mouser; Supplier Part Number 2: 904-EFM32TG230F8; AES: Y; ARM Cortex CPU: M3; LESENSE: Y; Subcategory: EFM32 Tiny Gecko; Supply Voltage (V): 1.85 - 3.8; Mounting Technology: Surface Mount; ComponentLink1Description: Manufacturer URL; ComponentLink1URL: http://www.energymicro.com/; ComponentLink2Description: Datasheet; ComponentLink2URL: http://cdn.energymicro.com/dl/devices/pdf/d0030_efm32tg230_datasheet.pdf; ComponentLink3Description: Package Specification; ComponentLink3URL: http://cdn.energymicro.com/dl/devices/pdf/d0005_efm32g230_datasheet.pdf
footprint ENMR-QFN64_N (QFN, 64-Leads, Body 9x9mm, Pitch 0.5mm, IPC Medium Density)
footprint ENMR-QFN64_L (QFN, 64-Leads, Body 9x9mm, Pitch 0.5mm, IPC High Density)
footprint ENMR-QFN64_M (QFN, 64-Leads, Body 9x9mm, Pitch 0.5mm, IPC Low Density)
pins: 0 VSS (power) "Ground", 1 PA0 (io) "TIM0_CC0#0/1/4, LEU0_RX#4, I2C0_SDA#0, PRS_CH0#0, GPIO_EM4WU0", 2 PA1 (io) "TIM0_CC1#0/1, I2C0_SCL#0, CMU_CLK1#0, PRS_CH1#0", 3 PA2 (io) "TIM0_CC2#0/1, CMU_CLK0#0", 4 PA3 (io) "LES_ALTEX2#0", 5 PA4 (io) "LES_ALTEX3#0", 6 PA5 (io) "LES_ALTEX4#0", 7 PA6 (io) "GPIO_EM4WU1", 8 IOVDD_0 (power) "Digital IO power supply 0.", 9 PC0 (io) "DAC0_OUT0ALT#0/OPAMP_OUT0ALT, ACMP0_CH0, TIM0_CC1#4, PCNT0_S0IN#2, US0_TX#5, US1_TX#0, I2C0_SDA#4, LES_CH0#0, PRS_CH2#0", 10 PC1 (io) "DAC0_OUT0ALT#1/OPAMP_OUT0ALT, ACMP0_CH1, TIM0_CC2#4, PCNT0_S1IN#2, US0_RX#5, US1_RX#0, I2C0_SCL#4, LES_CH1#0, PRS_CH3#0", 11 PC2 (io) "DAC0_OUT0ALT#2/OPAMP_OUT0ALT, ACMP0_CH2, LES_CH2#0", 12 PC3 (io) "DAC0_OUT0ALT#3/OPAMP_OUT0ALT, ACMP0_CH3, LES_CH3#0", 13 PC4 (io) "DAC0_P0#0/OPAMP_P0, ACMP0_CH4, LETIM0_OUT0#3, LES_CH4#0", 14 PC5 (io) "DAC0_N0#0/OPAMP_N0, ACMP0_CH5, LETIM0_OUT1#3, LES_CH5#0", 15 PB7 (io) "LFXTAL_P, TIM1_CC0#3, US0_TX#4, US1_CLK#0", 16 PB8 (io) "LFXTAL_N, TIM1_CC1#3, US0_RX#4, US1_CS#0", 17 PA8 (io), 18 PA9 (io), 19 PA10 (io), 20 RESETn (in) "Reset input. Active low, with internal pull-up.", 21 PB11 (io) "DAC0_OUT0#0/OPAMP_OUT0, TIM1_CC2#3, LETIM0_OUT0#1", 22 PB12 (io) "DAC0_OUT1#0/OPAMP_OUT1, LETIM0_OUT1#1", 23 AVDD_1 (power) "Analog power supply 1 .", 24 PB13 (io) "HFXTAL_P, US0_CLK#4/5, LEU0_TX#1", 25 PB14 (io) "HFXTAL_N, US0_CS#4/5, LEU0_RX#1", 26 IOVDD_3 (power) "Digital IO power supply 3.", 27 AVDD_0 (power) "Analog power supply 0.", 28 PD0 (io) "ADC0_CH0, DAC0_OUT0ALT#4/OPAMP_OUT0ALT, DAC0_OUT2#1/OPAMP_OUT2, US1_TX#1", 29 PD1 (io) "ADC0_CH1, DAC0_OUT1ALT#4/OPAMP_OUT1ALT, TIM0_CC0#3, US1_RX#1", 30 PD2 (io) "ADC0_CH2, TIM0_CC1#3, US1_CLK#1", 31 PD3 (io) "ADC0_CH3, DAC0_N2#0/OPAMP_N2, TIM0_CC2#3, US1_CS#1", 32 PD4 (io) "ADC0_CH4, DAC0_P2#0/OPAMP_P2, LEU0_TX#0", 33 PD5 (io) "ADC0_CH5, DAC0_OUT2#0/OPAMP_OUT2, LEU0_RX#0", 34 PD6 (io) "ADC0_CH6, DAC0_P1#0/OPAMP_P1, TIM1_CC0#4, LETIM0_OUT0#0, PCNT0_S0IN#3, US1_RX#2, I2C0_SDA#1, LES_ALTEX0#0, ACMP0_O#2", 35 PD7 (io) "ADC0_CH7, DAC0_N1#0/OPAMP_N1, TIM1_CC1#4, LETIM0_OUT1#0, PCNT0_S1IN#3, US1_TX#2, I2C0_SCL#1, CMU_CLK0#2, LES_ALTEX1#0, ACMP1_O#2", 36 PD8 (io) "CMU_CLK1#1", 37 PC6 (io) "ACMP0_CH6, I2C0_SDA#2, LES_CH6#0", 38 PC7 (io) "ACMP0_CH7, I2C0_SCL#2, LES_CH7#0", 39 VDD_DREG (power) "Power supply for on-chip voltage regulator.", 40 DECOUPLE "Decouple output for on-chip voltage regulator, nominally at 1.8 V. An external capacitance of size CDECOUPLE is required at this pin.", 41 PC8 (io) "ACMP1_CH0, US0_CS#2, LES_CH8#0", 42 PC9 (io) "ACMP1_CH1, US0_CLK#2, LES_CH9#0, GPIO_EM4WU2", 43 PC10 (io) "ACMP1_CH2, US0_RX#2, LES_CH10#0", 44 PC11 (io) "ACMP1_CH3, US0_TX#2, LES_CH11#0", 45 PC12 (io) "DAC0_OUT1ALT#0/OPAMP_OUT1ALT, ACMP1_CH4, CMU_CLK0#1, LES_CH12#0", 46 PC13 (io) "DAC0_OUT1ALT#1/OPAMP_OUT1ALT, ACMP1_CH5, TIM1_CC0#0, TIM1_CC2#4, PCNT0_S0IN#0, LES_CH13#0", 47 PC14 (io) "DAC0_OUT1ALT#2/OPAMP_OUT1ALT, ACMP1_CH6, TIM1_CC1#0, PCNT0_S1IN#0, US0_CS#3, LES_CH14#0", 48 PC15 (io) "DAC0_OUT1ALT#3/OPAMP_OUT1ALT, ACMP1_CH7, TIM1_CC2#0, US0_CLK#3, LES_CH15#0, DBG_SWO#1", 49 PF0 (io) "TIM0_CC0#5, LETIM0_OUT0#2, US1_CLK#2, LEU0_TX#3, I2C0_SDA#5, DBG_SWCLK#0/1", 50 PF1 (io) "TIM0_CC1#5, LETIM0_OUT1#2, US1_CS#2, LEU0_RX#3, I2C0_SCL#5, DBG_SWDIO#0/1, GPIO_EM4WU3", 51 PF2 (io) "TIM0_CC2#5, LEU0_TX#4, ACMP1_O#0, DBG_SWO#0, GPIO_EM4WU4", 52 PF3 (io) "PRS_CH0#1", 53 PF4 (io) "PRS_CH1#1", 54 PF5 (io) "PRS_CH2#1", 55 IOVDD_5 (power) "Digital IO power supply 5.", 56 PE8 (io) "PRS_CH3#1", 57 PE9 (io), 58 PE10 (io) "TIM1_CC0#1, US0_TX#0", 59 PE11 (io) "TIM1_CC1#1, US0_RX#0, LES_ALTEX5#0", 60 PE12 (io) "TIM1_CC2#1, US0_RX#3, US0_CLK#0, I2C0_SDA#6, CMU_CLK1#2, LES_ALTEX6#0", 61 PE13 (io) "US0_TX#3, US0_CS#0, I2C0_SCL#6, LES_ALTEX7#0, ACMP0_O#0, GPIO_EM4WU5", 62 PE14 (io) "LEU0_TX#2", 63 PE15 (io) "LEU0_RX#2", 64 PA15 (io)

## EFM32TG230F16-QFN64
designator U?
EFM32 Tiny Gecko, M3 ARM Cortex CPU, 16 KB Flash, 4 KB RAM, 1.85 - 3.8 V Supply, 32 MHz Max Speed, -40 to 85 degC, 64-Pin QFN, RoHS Compliant; Generic Part Number: EFM32TG230; PartNumber: EFM32TG230F16-QFN64; ADC: Y; Flash (KB): 16; GPIO: 56; Max Speed (MHz): 32; OPAMPS: 3; RAM (KB): 4; DatasheetVersion: Rev 1.00; PackageVersion: Rev. 98SPP64048A_XO1_08MAR2011; PackageReference: QFN64; PackageDescription: 64-Pin Quad Flat No-Lead, Body 9 x 9 mm, Pitch 0.5 mm; Supplier 1: Digi-Key; Supplier Part Number 1: EFM32TG230F16-ND; Supplier 2: Mouser; Supplier Part Number 2: 904-EFM32TG230F16; AES: Y; ARM Cortex CPU: M3; LESENSE: Y; Subcategory: EFM32 Tiny Gecko; Supply Voltage (V): 1.85 - 3.8; Mounting Technology: Surface Mount; ComponentLink1Description: Manufacturer URL; ComponentLink1URL: http://www.energymicro.com/; ComponentLink2Description: Datasheet; ComponentLink2URL: http://cdn.energymicro.com/dl/devices/pdf/d0030_efm32tg230_datasheet.pdf; ComponentLink3Description: Package Specification; ComponentLink3URL: http://cdn.energymicro.com/dl/devices/pdf/d0005_efm32g230_datasheet.pdf
footprint ENMR-QFN64_N (QFN, 64-Leads, Body 9x9mm, Pitch 0.5mm, IPC Medium Density)
footprint ENMR-QFN64_L (QFN, 64-Leads, Body 9x9mm, Pitch 0.5mm, IPC High Density)
footprint ENMR-QFN64_M (QFN, 64-Leads, Body 9x9mm, Pitch 0.5mm, IPC Low Density)
pins: 0 VSS (power) "Ground", 1 PA0 (io) "TIM0_CC0#0/1/4, LEU0_RX#4, I2C0_SDA#0, PRS_CH0#0, GPIO_EM4WU0", 2 PA1 (io) "TIM0_CC1#0/1, I2C0_SCL#0, CMU_CLK1#0, PRS_CH1#0", 3 PA2 (io) "TIM0_CC2#0/1, CMU_CLK0#0", 4 PA3 (io) "LES_ALTEX2#0", 5 PA4 (io) "LES_ALTEX3#0", 6 PA5 (io) "LES_ALTEX4#0", 7 PA6 (io) "GPIO_EM4WU1", 8 IOVDD_0 (power) "Digital IO power supply 0.", 9 PC0 (io) "DAC0_OUT0ALT#0/OPAMP_OUT0ALT, ACMP0_CH0, TIM0_CC1#4, PCNT0_S0IN#2, US0_TX#5, US1_TX#0, I2C0_SDA#4, LES_CH0#0, PRS_CH2#0", 10 PC1 (io) "DAC0_OUT0ALT#1/OPAMP_OUT0ALT, ACMP0_CH1, TIM0_CC2#4, PCNT0_S1IN#2, US0_RX#5, US1_RX#0, I2C0_SCL#4, LES_CH1#0, PRS_CH3#0", 11 PC2 (io) "DAC0_OUT0ALT#2/OPAMP_OUT0ALT, ACMP0_CH2, LES_CH2#0", 12 PC3 (io) "DAC0_OUT0ALT#3/OPAMP_OUT0ALT, ACMP0_CH3, LES_CH3#0", 13 PC4 (io) "DAC0_P0#0/OPAMP_P0, ACMP0_CH4, LETIM0_OUT0#3, LES_CH4#0", 14 PC5 (io) "DAC0_N0#0/OPAMP_N0, ACMP0_CH5, LETIM0_OUT1#3, LES_CH5#0", 15 PB7 (io) "LFXTAL_P, TIM1_CC0#3, US0_TX#4, US1_CLK#0", 16 PB8 (io) "LFXTAL_N, TIM1_CC1#3, US0_RX#4, US1_CS#0", 17 PA8 (io), 18 PA9 (io), 19 PA10 (io), 20 RESETn (in) "Reset input. Active low, with internal pull-up.", 21 PB11 (io) "DAC0_OUT0#0/OPAMP_OUT0, TIM1_CC2#3, LETIM0_OUT0#1", 22 PB12 (io) "DAC0_OUT1#0/OPAMP_OUT1, LETIM0_OUT1#1", 23 AVDD_1 (power) "Analog power supply 1 .", 24 PB13 (io) "HFXTAL_P, US0_CLK#4/5, LEU0_TX#1", 25 PB14 (io) "HFXTAL_N, US0_CS#4/5, LEU0_RX#1", 26 IOVDD_3 (power) "Digital IO power supply 3.", 27 AVDD_0 (power) "Analog power supply 0.", 28 PD0 (io) "ADC0_CH0, DAC0_OUT0ALT#4/OPAMP_OUT0ALT, DAC0_OUT2#1/OPAMP_OUT2, US1_TX#1", 29 PD1 (io) "ADC0_CH1, DAC0_OUT1ALT#4/OPAMP_OUT1ALT, TIM0_CC0#3, US1_RX#1", 30 PD2 (io) "ADC0_CH2, TIM0_CC1#3, US1_CLK#1", 31 PD3 (io) "ADC0_CH3, DAC0_N2#0/OPAMP_N2, TIM0_CC2#3, US1_CS#1", 32 PD4 (io) "ADC0_CH4, DAC0_P2#0/OPAMP_P2, LEU0_TX#0", 33 PD5 (io) "ADC0_CH5, DAC0_OUT2#0/OPAMP_OUT2, LEU0_RX#0", 34 PD6 (io) "ADC0_CH6, DAC0_P1#0/OPAMP_P1, TIM1_CC0#4, LETIM0_OUT0#0, PCNT0_S0IN#3, US1_RX#2, I2C0_SDA#1, LES_ALTEX0#0, ACMP0_O#2", 35 PD7 (io) "ADC0_CH7, DAC0_N1#0/OPAMP_N1, TIM1_CC1#4, LETIM0_OUT1#0, PCNT0_S1IN#3, US1_TX#2, I2C0_SCL#1, CMU_CLK0#2, LES_ALTEX1#0, ACMP1_O#2", 36 PD8 (io) "CMU_CLK1#1", 37 PC6 (io) "ACMP0_CH6, I2C0_SDA#2, LES_CH6#0", 38 PC7 (io) "ACMP0_CH7, I2C0_SCL#2, LES_CH7#0", 39 VDD_DREG (power) "Power supply for on-chip voltage regulator.", 40 DECOUPLE "Decouple output for on-chip voltage regulator, nominally at 1.8 V. An external capacitance of size CDECOUPLE is required at this pin.", 41 PC8 (io) "ACMP1_CH0, US0_CS#2, LES_CH8#0", 42 PC9 (io) "ACMP1_CH1, US0_CLK#2, LES_CH9#0, GPIO_EM4WU2", 43 PC10 (io) "ACMP1_CH2, US0_RX#2, LES_CH10#0", 44 PC11 (io) "ACMP1_CH3, US0_TX#2, LES_CH11#0", 45 PC12 (io) "DAC0_OUT1ALT#0/OPAMP_OUT1ALT, ACMP1_CH4, CMU_CLK0#1, LES_CH12#0", 46 PC13 (io) "DAC0_OUT1ALT#1/OPAMP_OUT1ALT, ACMP1_CH5, TIM1_CC0#0, TIM1_CC2#4, PCNT0_S0IN#0, LES_CH13#0", 47 PC14 (io) "DAC0_OUT1ALT#2/OPAMP_OUT1ALT, ACMP1_CH6, TIM1_CC1#0, PCNT0_S1IN#0, US0_CS#3, LES_CH14#0", 48 PC15 (io) "DAC0_OUT1ALT#3/OPAMP_OUT1ALT, ACMP1_CH7, TIM1_CC2#0, US0_CLK#3, LES_CH15#0, DBG_SWO#1", 49 PF0 (io) "TIM0_CC0#5, LETIM0_OUT0#2, US1_CLK#2, LEU0_TX#3, I2C0_SDA#5, DBG_SWCLK#0/1", 50 PF1 (io) "TIM0_CC1#5, LETIM0_OUT1#2, US1_CS#2, LEU0_RX#3, I2C0_SCL#5, DBG_SWDIO#0/1, GPIO_EM4WU3", 51 PF2 (io) "TIM0_CC2#5, LEU0_TX#4, ACMP1_O#0, DBG_SWO#0, GPIO_EM4WU4", 52 PF3 (io) "PRS_CH0#1", 53 PF4 (io) "PRS_CH1#1", 54 PF5 (io) "PRS_CH2#1", 55 IOVDD_5 (power) "Digital IO power supply 5.", 56 PE8 (io) "PRS_CH3#1", 57 PE9 (io), 58 PE10 (io) "TIM1_CC0#1, US0_TX#0", 59 PE11 (io) "TIM1_CC1#1, US0_RX#0, LES_ALTEX5#0", 60 PE12 (io) "TIM1_CC2#1, US0_RX#3, US0_CLK#0, I2C0_SDA#6, CMU_CLK1#2, LES_ALTEX6#0", 61 PE13 (io) "US0_TX#3, US0_CS#0, I2C0_SCL#6, LES_ALTEX7#0, ACMP0_O#0, GPIO_EM4WU5", 62 PE14 (io) "LEU0_TX#2", 63 PE15 (io) "LEU0_RX#2", 64 PA15 (io)

## EFM32TG230F32-QFN64
designator U?
EFM32 Tiny Gecko, M3 ARM Cortex CPU, 32 KB Flash, 4 KB RAM, 1.85 - 3.8 V Supply, 32 MHz Max Speed, -40 to 85 degC, 64-Pin QFN, RoHS Compliant; Generic Part Number: EFM32TG230; PartNumber: EFM32TG230F32-QFN64; ADC: Y; Flash (KB): 32; GPIO: 56; OPAMPS: 3; RAM (KB): 4; DatasheetVersion: Rev 1.00; PackageVersion: Rev. 98SPP64048A_XO1_08MAR2011; PackageReference: QFN64; PackageDescription: 64-Pin Quad Flat No-Lead, Body 9 x 9 mm, Pitch 0.5 mm; Supplier 1: Digi-Key; Supplier Part Number 1: 914-1035-2-ND; Supplier 2: Digi-Key; Supplier Part Number 2: 914-1035-1-ND; Supplier 3: Digi-Key; Supplier Part Number 3: 914-1035-6-ND; Supplier 4: Mouser; Supplier Part Number 4: 904-EFM32TG230F32; AES: Y; ARM Cortex CPU: M3; LESENSE: Y; Max Speed (MHz): 32; Subcategory: EFM32 Tiny Gecko; Supply Voltage (V): 1.85 - 3.8; Mounting Technology: Surface Mount; ComponentLink1Description: Manufacturer URL; ComponentLink1URL: http://www.energymicro.com/; ComponentLink2Description: Datasheet; ComponentLink2URL: http://cdn.energymicro.com/dl/devices/pdf/d0030_efm32tg230_datasheet.pdf; ComponentLink3Description: Package Specification; ComponentLink3URL: http://cdn.energymicro.com/dl/devices/pdf/d0005_efm32g230_datasheet.pdf
footprint ENMR-QFN64_N (QFN, 64-Leads, Body 9x9mm, Pitch 0.5mm, IPC Medium Density)
footprint ENMR-QFN64_L (QFN, 64-Leads, Body 9x9mm, Pitch 0.5mm, IPC High Density)
footprint ENMR-QFN64_M (QFN, 64-Leads, Body 9x9mm, Pitch 0.5mm, IPC Low Density)
pins: 0 VSS (power) "Ground", 1 PA0 (io) "TIM0_CC0#0/1/4, LEU0_RX#4, I2C0_SDA#0, PRS_CH0#0, GPIO_EM4WU0", 2 PA1 (io) "TIM0_CC1#0/1, I2C0_SCL#0, CMU_CLK1#0, PRS_CH1#0", 3 PA2 (io) "TIM0_CC2#0/1, CMU_CLK0#0", 4 PA3 (io) "LES_ALTEX2#0", 5 PA4 (io) "LES_ALTEX3#0", 6 PA5 (io) "LES_ALTEX4#0", 7 PA6 (io) "GPIO_EM4WU1", 8 IOVDD_0 (power) "Digital IO power supply 0.", 9 PC0 (io) "DAC0_OUT0ALT#0/OPAMP_OUT0ALT, ACMP0_CH0, TIM0_CC1#4, PCNT0_S0IN#2, US0_TX#5, US1_TX#0, I2C0_SDA#4, LES_CH0#0, PRS_CH2#0", 10 PC1 (io) "DAC0_OUT0ALT#1/OPAMP_OUT0ALT, ACMP0_CH1, TIM0_CC2#4, PCNT0_S1IN#2, US0_RX#5, US1_RX#0, I2C0_SCL#4, LES_CH1#0, PRS_CH3#0", 11 PC2 (io) "DAC0_OUT0ALT#2/OPAMP_OUT0ALT, ACMP0_CH2, LES_CH2#0", 12 PC3 (io) "DAC0_OUT0ALT#3/OPAMP_OUT0ALT, ACMP0_CH3, LES_CH3#0", 13 PC4 (io) "DAC0_P0#0/OPAMP_P0, ACMP0_CH4, LETIM0_OUT0#3, LES_CH4#0", 14 PC5 (io) "DAC0_N0#0/OPAMP_N0, ACMP0_CH5, LETIM0_OUT1#3, LES_CH5#0", 15 PB7 (io) "LFXTAL_P, TIM1_CC0#3, US0_TX#4, US1_CLK#0", 16 PB8 (io) "LFXTAL_N, TIM1_CC1#3, US0_RX#4, US1_CS#0", 17 PA8 (io), 18 PA9 (io), 19 PA10 (io), 20 RESETn (in) "Reset input. Active low, with internal pull-up.", 21 PB11 (io) "DAC0_OUT0#0/OPAMP_OUT0, TIM1_CC2#3, LETIM0_OUT0#1", 22 PB12 (io) "DAC0_OUT1#0/OPAMP_OUT1, LETIM0_OUT1#1", 23 AVDD_1 (power) "Analog power supply 1 .", 24 PB13 (io) "HFXTAL_P, US0_CLK#4/5, LEU0_TX#1", 25 PB14 (io) "HFXTAL_N, US0_CS#4/5, LEU0_RX#1", 26 IOVDD_3 (power) "Digital IO power supply 3.", 27 AVDD_0 (power) "Analog power supply 0.", 28 PD0 (io) "ADC0_CH0, DAC0_OUT0ALT#4/OPAMP_OUT0ALT, DAC0_OUT2#1/OPAMP_OUT2, US1_TX#1", 29 PD1 (io) "ADC0_CH1, DAC0_OUT1ALT#4/OPAMP_OUT1ALT, TIM0_CC0#3, US1_RX#1", 30 PD2 (io) "ADC0_CH2, TIM0_CC1#3, US1_CLK#1", 31 PD3 (io) "ADC0_CH3, DAC0_N2#0/OPAMP_N2, TIM0_CC2#3, US1_CS#1", 32 PD4 (io) "ADC0_CH4, DAC0_P2#0/OPAMP_P2, LEU0_TX#0", 33 PD5 (io) "ADC0_CH5, DAC0_OUT2#0/OPAMP_OUT2, LEU0_RX#0", 34 PD6 (io) "ADC0_CH6, DAC0_P1#0/OPAMP_P1, TIM1_CC0#4, LETIM0_OUT0#0, PCNT0_S0IN#3, US1_RX#2, I2C0_SDA#1, LES_ALTEX0#0, ACMP0_O#2", 35 PD7 (io) "ADC0_CH7, DAC0_N1#0/OPAMP_N1, TIM1_CC1#4, LETIM0_OUT1#0, PCNT0_S1IN#3, US1_TX#2, I2C0_SCL#1, CMU_CLK0#2, LES_ALTEX1#0, ACMP1_O#2", 36 PD8 (io) "CMU_CLK1#1", 37 PC6 (io) "ACMP0_CH6, I2C0_SDA#2, LES_CH6#0", 38 PC7 (io) "ACMP0_CH7, I2C0_SCL#2, LES_CH7#0", 39 VDD_DREG (power) "Power supply for on-chip voltage regulator.", 40 DECOUPLE "Decouple output for on-chip voltage regulator, nominally at 1.8 V. An external capacitance of size CDECOUPLE is required at this pin.", 41 PC8 (io) "ACMP1_CH0, US0_CS#2, LES_CH8#0", 42 PC9 (io) "ACMP1_CH1, US0_CLK#2, LES_CH9#0, GPIO_EM4WU2", 43 PC10 (io) "ACMP1_CH2, US0_RX#2, LES_CH10#0", 44 PC11 (io) "ACMP1_CH3, US0_TX#2, LES_CH11#0", 45 PC12 (io) "DAC0_OUT1ALT#0/OPAMP_OUT1ALT, ACMP1_CH4, CMU_CLK0#1, LES_CH12#0", 46 PC13 (io) "DAC0_OUT1ALT#1/OPAMP_OUT1ALT, ACMP1_CH5, TIM1_CC0#0, TIM1_CC2#4, PCNT0_S0IN#0, LES_CH13#0", 47 PC14 (io) "DAC0_OUT1ALT#2/OPAMP_OUT1ALT, ACMP1_CH6, TIM1_CC1#0, PCNT0_S1IN#0, US0_CS#3, LES_CH14#0", 48 PC15 (io) "DAC0_OUT1ALT#3/OPAMP_OUT1ALT, ACMP1_CH7, TIM1_CC2#0, US0_CLK#3, LES_CH15#0, DBG_SWO#1", 49 PF0 (io) "TIM0_CC0#5, LETIM0_OUT0#2, US1_CLK#2, LEU0_TX#3, I2C0_SDA#5, DBG_SWCLK#0/1", 50 PF1 (io) "TIM0_CC1#5, LETIM0_OUT1#2, US1_CS#2, LEU0_RX#3, I2C0_SCL#5, DBG_SWDIO#0/1, GPIO_EM4WU3", 51 PF2 (io) "TIM0_CC2#5, LEU0_TX#4, ACMP1_O#0, DBG_SWO#0, GPIO_EM4WU4", 52 PF3 (io) "PRS_CH0#1", 53 PF4 (io) "PRS_CH1#1", 54 PF5 (io) "PRS_CH2#1", 55 IOVDD_5 (power) "Digital IO power supply 5.", 56 PE8 (io) "PRS_CH3#1", 57 PE9 (io), 58 PE10 (io) "TIM1_CC0#1, US0_TX#0", 59 PE11 (io) "TIM1_CC1#1, US0_RX#0, LES_ALTEX5#0", 60 PE12 (io) "TIM1_CC2#1, US0_RX#3, US0_CLK#0, I2C0_SDA#6, CMU_CLK1#2, LES_ALTEX6#0", 61 PE13 (io) "US0_TX#3, US0_CS#0, I2C0_SCL#6, LES_ALTEX7#0, ACMP0_O#0, GPIO_EM4WU5", 62 PE14 (io) "LEU0_TX#2", 63 PE15 (io) "LEU0_RX#2", 64 PA15 (io)

## EFM32TG232F16-QFP64
designator U?
EFM32 Tiny Gecko, M3 ARM Cortex CPU, 16 KB Flash, 4 KB RAM, 1.85 - 3.8 V Supply, 32 MHz Max Speed, -40 to 85 degC, 64-Pin TQFP, RoHS Compliant; Generic Part Number: EFM32TG232; PartNumber: EFM32TG232F16-QFP64; ADC: Y; Flash (KB): 16; GPIO: 53; Max Speed (MHz): 32; OPAMPS: 3; RAM (KB): 4; DatasheetVersion: Rev 1.00; PackageVersion: Rev. 98SPP64023A_XO1_17MAR2011; PackageReference: TQFP64; PackageDescription: 64-Pin Quad Flat Package, Body 10 x 10 mm, Pitch 0.5 mm; Supplier 1: Digi-Key; Supplier Part Number 1: EFM32TG232F16-ND; Supplier 2: Mouser; Supplier Part Number 2: 904-EFM32TG232F16; AES: Y; ARM Cortex CPU: M3; LESENSE: Y; Subcategory: EFM32 Tiny Gecko; Supply Voltage (V): 1.85 - 3.8; Mounting Technology: Surface Mount; ComponentLink1Description: Manufacturer URL; ComponentLink1URL: http://www.energymicro.com/; ComponentLink2Description: Datasheet; ComponentLink2URL: http://cdn.energymicro.com/dl/devices/pdf/d0071_efm32tg232_datasheet.pdf; ComponentLink3Description: Package Specification; ComponentLink3URL: http://cdn.energymicro.com/dl/devices/pdf/d0070_efm32g842_datasheet.pdf
footprint ENMR-TQFP64_N (QFP, 64-Leads, Body 10x10mm, Pitch 0.5mm, IPC Medium Density)
footprint ENMR-TQFP64_L (QFP, 64-Leads, Body 10x10mm, Pitch 0.5mm, IPC High Density)
footprint ENMR-TQFP64_M (QFP, 64-Leads, Body 10x10mm, Pitch 0.5mm, IPC Low Density)
pins: 1 PA0 (io) "TIM0_CC0 #0/1/4, LEU0_RX #4, I2C0_SDA #0, PRS_CH0 #0, GPIO_EM4WU0", 2 PA1 (io) "TIM0_CC1 #0/1, I2C0_SCL #0, CMU_CLK1 #0, PRS_CH1 #0", 3 PA2 (io) "TIM0_CC2 #0/1, CMU_CLK0 #0", 4 PA3 (io) "LES_ALTEX2 #0", 5 PA4 (io) "LES_ALTEX3 #0", 6 PA5 (io) "LES_ALTEX4 #0", 7 IOVDD_0 (power) "Digital IO power supply 0.", 8 VSS (power) "Ground", 9 PC0 (io) "DAC0_OUT0ALT #0/OPAMP_OUT0ALT, ACMP0_CH0, TIM0_CC1 #4, PCNT0_S0IN #2, US0_TX #5, US1_TX #0, I2C0_SDA #4, LES_CH0 #0, PRS_CH2 #0", 10 PC1 (io) "DAC0_OUT0ALT #1/OPAMP_OUT0ALT, ACMP0_CH1, TIM0_CC2 #4, PCNT0_S1IN #2, US0_RX #5, US1_RX #0, I2C0_SCL #4, LES_CH1 #0, PRS_CH3 #0", 11 PC2 (io) "DAC0_OUT0ALT #2/OPAMP_OUT0ALT, ACMP0_CH2, LES_CH2 #0", 12 PC3 (io) "DAC0_OUT0ALT #3/OPAMP_OUT0ALT, ACMP0_CH3, LES_CH3 #0", 13 PC4 (io) "DAC0_P0 #0/OPAMP_P0, ACMP0_CH4, LETIM0_OUT0 #3, LES_CH4 #0", 14 PC5 (io) "DAC0_N0 #0/OPAMP_N0 ACMP0_CH5, LETIM0_OUT1 #3, LES_CH5 #0", 15 PB7 (io) "LFXTAL_P, TIM1_CC0 #3, US0_TX #4, US1_CLK #0", 16 PB8 (io) "LFXTAL_N, TIM1_CC1 #3, US0_RX #4 US1_CS #0", 17 PA8 (io), 18 PA9 (io), 19 PA10 (io), 20 RESETn (in) "Reset input. Active low, with internal pull-up.", 21 PB11 (io) "DAC0_OUT0 #0/OPAMP_OUT0, TIM1_CC2 #3, LETIM0_OUT0 #1", 22 VSS (power) "Ground", 23 AVDD_1 (power) "Analog power supply 1 .", 24 PB13 (io) "HFXTAL_P, US0_CLK #4/5, LEU0_TX #1", 25 PB14 (io) "HFXTAL_N, US0_CS #4/5, LEU0_RX #1", 26 IOVDD_3 (power) "Digital IO power supply 3.", 27 AVDD_0 (power) "Analog power supply 0.", 28 PD0 (io) "ADC0_CH0, DAC0_OUT0ALT #4/OPAMP_OUT0ALT, DAC0_OUT2 #1/OPAMP_OUT2, US1_TX #1", 29 PD1 (io) "ADC0_CH1, DAC0_OUT1ALT #4/OPAMP_OUT1ALT, TIM0_CC0 #3, US1_RX #1", 30 PD2 (io) "ADC0_CH2, TIM0_CC1 #3, US1_CLK #1", 31 PD3 (io) "ADC0_CH3, DAC0_N2 #0/OPAMP_N2, TIM0_CC2 #3, US1_CS #1", 32 PD4 (io) "ADC0_CH4, DAC0_P2 #0/OPAMP_P2, LEU0_TX #0", 33 PD5 (io) "ADC0_CH5, DAC0_OUT2 #0/OPAMP_OUT2, LEU0_RX #0", 34 PD6 (io) "ADC0_CH6, DAC0_P1 #0/OPAMP_P1, TIM1_CC0 #4, LETIM0_OUT0 #0, PCNT0_S0IN #3, US1_RX #2 I2C0_SDA #1, LES_ALTEX0 #0, ACMP0_O #2", 35 PD7 (io) "ADC0_CH7, DAC0_N1 #0/OPAMP_N1, TIM1_CC1 #4, LETIM0_OUT1 #0, PCNT0_S1IN #3, US1_TX #2, I2C0_SCL #1, CMU_CLK0 #2, LES_ALTEX1 #0, ACMP1_O #2", 36 PD8 (io) "CMU_CLK1 #1", 37 PC6 (io) "ACMP0_CH6, I2C0_SDA #2, LES_CH6 #0", 38 PC7 (io) "ACMP0_CH7, I2C0_SCL #2, LES_CH7 #0", 39 VDD_DREG (power) "VDD_DREG, Power supply for on-chip voltage regulator.", 40 DECOUPLE "DECOUPLE, Decouple output for on-chip voltage regulator, nominally at 1.8 V. An external capacitance of size CDECOUPLE is required at this pin.", 41 PC8 (io) "ACMP1_CH0, US0_CS #2, LES_CH8 #0", 42 PC9 (io) "ACMP1_CH1, US0_CLK #2, LES_CH9 #0, GPIO_EM4WU2", 43 PC10 (io) "ACMP1_CH2, US0_RX #2, LES_CH10 #0", 44 PC11 (io) "ACMP1_CH3, US0_TX #2, LES_CH11 #0", 45 PC12 (io) "DAC0_OUT1ALT #0/OPAMP_OUT1ALT, ACMP1_CH4, CMU_CLK0 #1, LES_CH12 #0", 46 PC13 (io) "DAC0_OUT1ALT #1/OPAMP_OUT1ALT, ACMP1_CH5, TIM1_CC0 #0, TIM1_CC2 #4, PCNT0_S0IN #0, LES_CH13 #0", 47 PC14 (io) "DAC0_OUT1ALT #2/OPAMP_OUT1ALT, ACMP1_CH6, TIM1_CC1 #0, PCNT0_S1IN #0, US0_CS #3, LES_CH14 #0", 48 PC15 (io) "DAC0_OUT1ALT #3/OPAMP_OUT1ALT, ACMP1_CH7, TIM1_CC2 #0, US0_CLK #3, LES_CH15 #0, DBG_SWO #1", 49 PF0 (io) "TIM0_CC0 #5, LETIM0_OUT0 #2, US1_CLK #2, LEU0_TX #3, I2C0_SDA #5, DBG_SWCLK #0/1", 50 PF1 (io) "TIM0_CC1 #5, LETIM0_OUT1 #2, US1_CS #2, LEU0_RX #3, I2C0_SCL #5, DBG_SWDIO #0/1, GPIO_EM4WU3", 51 PF2 (io) "TIM0_CC2 #5, LEU0_TX #4, ACMP1_O #0, DBG_SWO #0, GPIO_EM4WU4", 52 PF3 (io) "PRS_CH0 #1", 53 PF4 (io) "PRS_CH1 #1", 54 PF5 (io) "PRS_CH2 #1", 55 IOVDD_5 (power) "Digital IO power supply 5.", 56 VSS (power) "Ground", 57 PE8 (io) "PRS_CH3 #1", 58 PE9 (io), 59 PE10 (io) "TIM1_CC0 #1, US0_TX #0", 60 PE11 (io) "TIM1_CC1 #1, US0_RX #0, LES_ALTEX5 #0", 61 PE12 (io) "TIM1_CC2 #1, US0_RX #3, US0_CLK #0, I2C0_SDA #6, CMU_CLK1 #2, LES_ALTEX6 #0", 62 PE13 (io) "US0_TX #3, US0_CS #0 I2C0_SCL #6, LES_ALTEX7 #0, ACMP0_O #0, GPIO_EM4WU5", 63 PE14 (io) "LEU0_TX #2", 64 PE15 (io) "LEU0_RX #2"

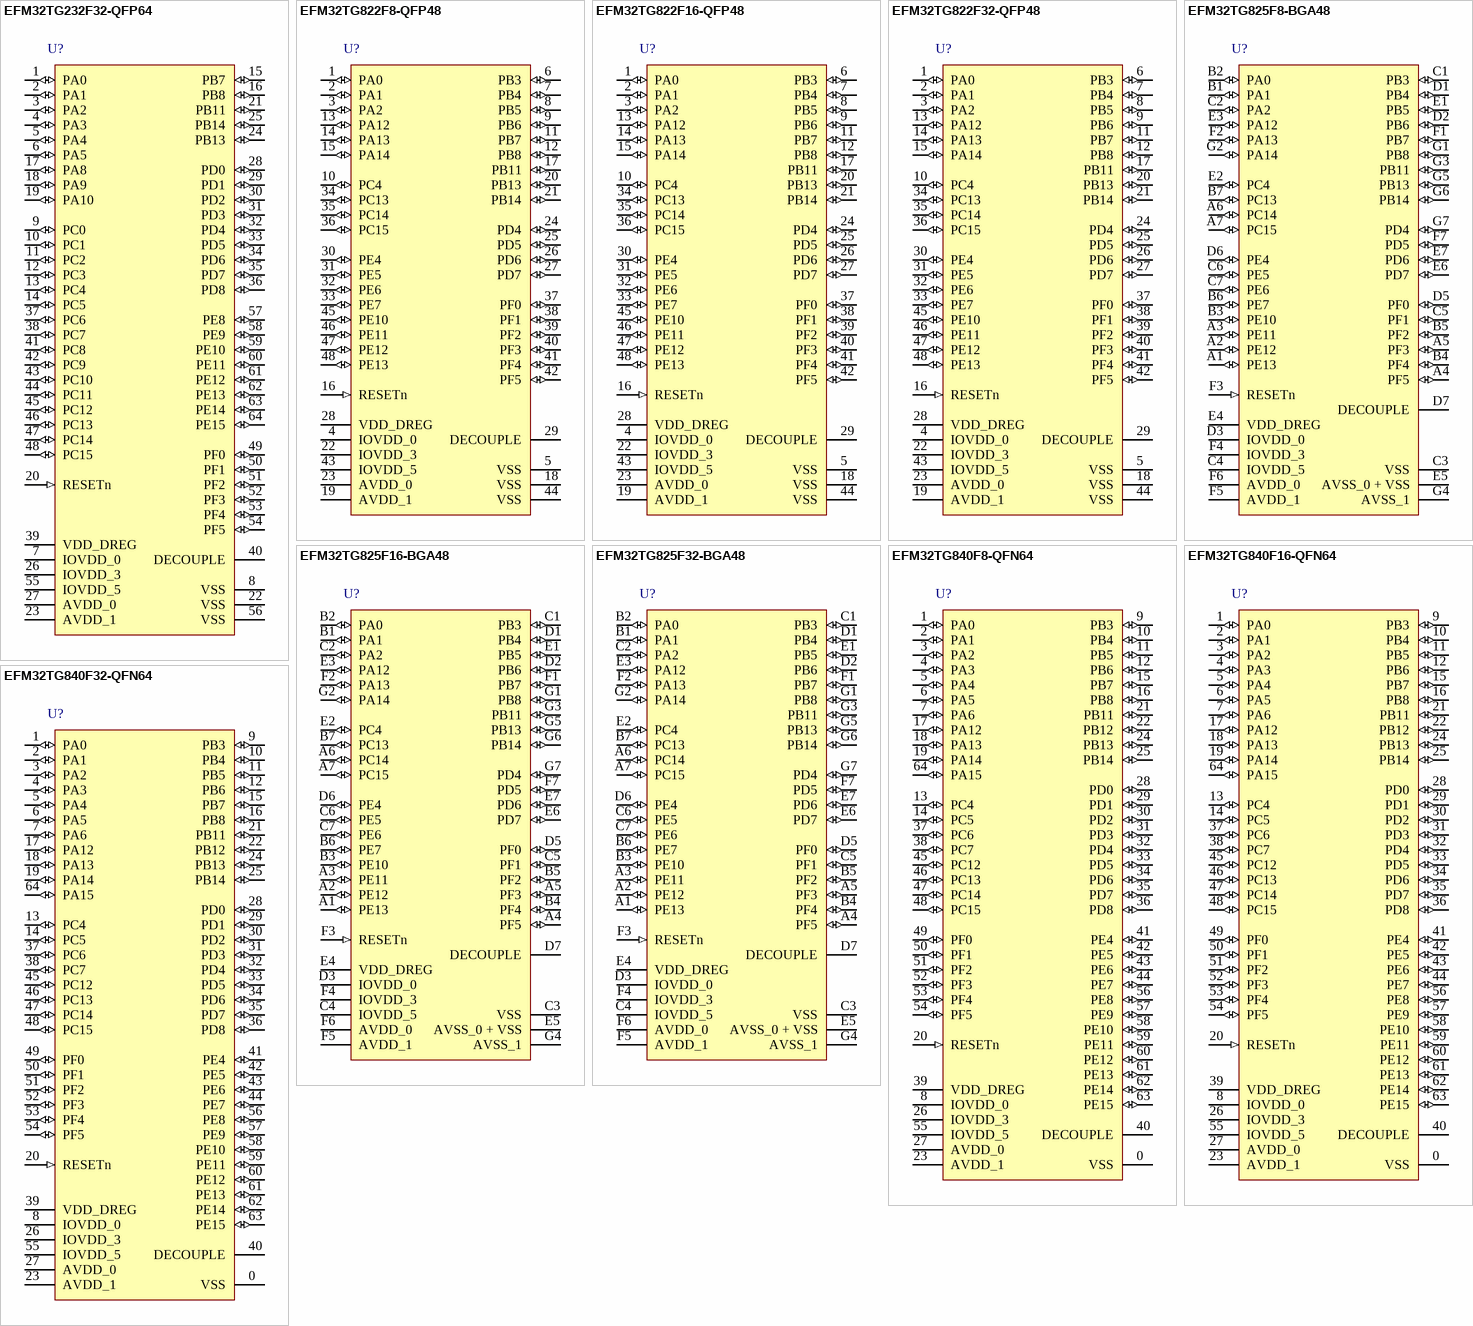
[diagram p25: symbols EFM32TG232F32-QFP64 to EFM32TG840F32-QFN64]